# EAGLE library part FT800 (library arducorder-mini)
FTDI FT800Q SPI Display Controller
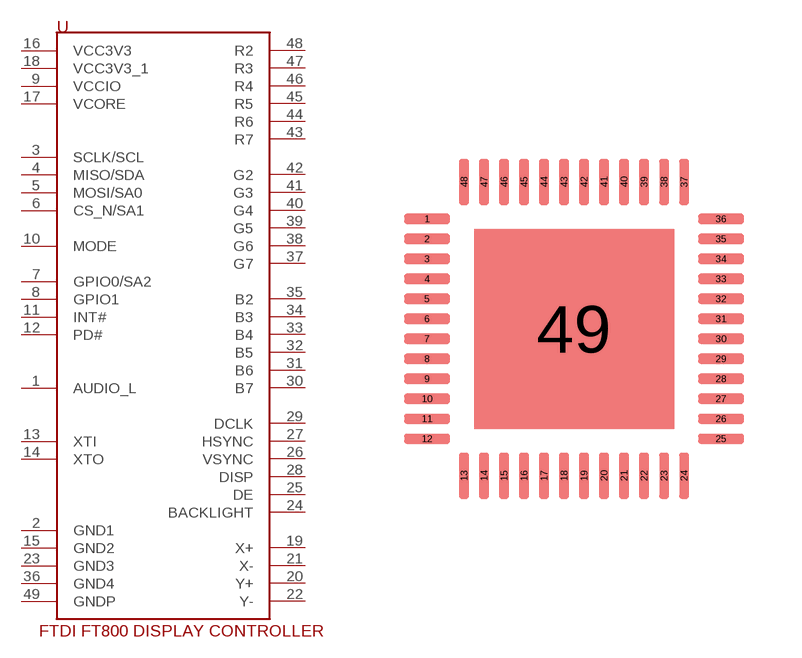
[diagram p19: symbol with the pads of VQFN-48; footprint VQFN-48]

Designator prefix -

## FT800  [VQFN-48]
1  AUDIO_L
2  GND1
3  SCLK/SCL
4  MISO/SDA
5  MOSI/SA0
6  CS_N/SA1
7  GPIO0/SA2
8  GPIO1
9  VCCIO
10  MODE
11  INT#
12  PD#
13  XTI
14  XTO
15  GND2
16  VCC3V3
17  VCORE
18  VCC3V3_1
19  X+
20  Y+
21  X-
22  Y-
23  GND3
24  BACKLIGHT
25  DE
26  VSYNC
27  HSYNC
28  DISP
29  DCLK
30  B7
31  B6
32  B5
33  B4
34  B3
35  B2
36  GND4
37  G7
38  G6
39  G5
40  G4
41  G3
42  G2
43  R7
44  R6
45  R5
46  R4
47  R3
48  R2
49  GNDP

## Footprint VQFN-48 (pad centres in mm)
VQFN-48 Auto generated by make-symbol-device-package-bsdl.ulp Rev. 43
smd 1.15 x 0.25: 1 -3.675,2.75; 2 -3.675,2.25; 3 -3.675,1.75; 4 -3.675,1.25; 5 -3.675,0.75; 6 -3.675,0.25; 7 -3.675,-0.25; 8 -3.675,-0.75; 9 -3.675,-1.25; 10 -3.675,-1.75; 11 -3.675,-2.25; 12 -3.675,-2.75; 25 3.675,-2.75; 26 3.675,-2.25; 27 3.675,-1.75; 28 3.675,-1.25; 29 3.675,-0.75; 30 3.675,-0.25; 31 3.675,0.25; 32 3.675,0.75; 33 3.675,1.25; 34 3.675,1.75; 35 3.675,2.25; 36 3.675,2.75
smd 0.25 x 1.15: 13 -2.75,-3.675; 14 -2.25,-3.675; 15 -1.75,-3.675; 16 -1.25,-3.675; 17 -0.75,-3.675; 18 -0.25,-3.675; 19 0.25,-3.675; 20 0.75,-3.675; 21 1.25,-3.675; 22 1.75,-3.675; 23 2.25,-3.675; 24 2.75,-3.675; 37 2.75,3.675; 38 2.25,3.675; 39 1.75,3.675; 40 1.25,3.675; 41 0.75,3.675; 42 0.25,3.675; 43 -0.25,3.675; 44 -0.75,3.675; 45 -1.25,3.675; 46 -1.75,3.675; 47 -2.25,3.675; 48 -2.75,3.675
smd 5 x 5: 49 0,0